# Altium footprint library TH resistors.PcbLib: 4 footprints
Each footprint in its own frame and in the unit in brackets; x right, y up, seen from the top. Pads: shape width x height; smd on the part's side, far side on the other; paste and mask are expansions set on the pad; w line width, h text height; cw(c..) or ccw(c..) is an arc to the next point about the centre after c.
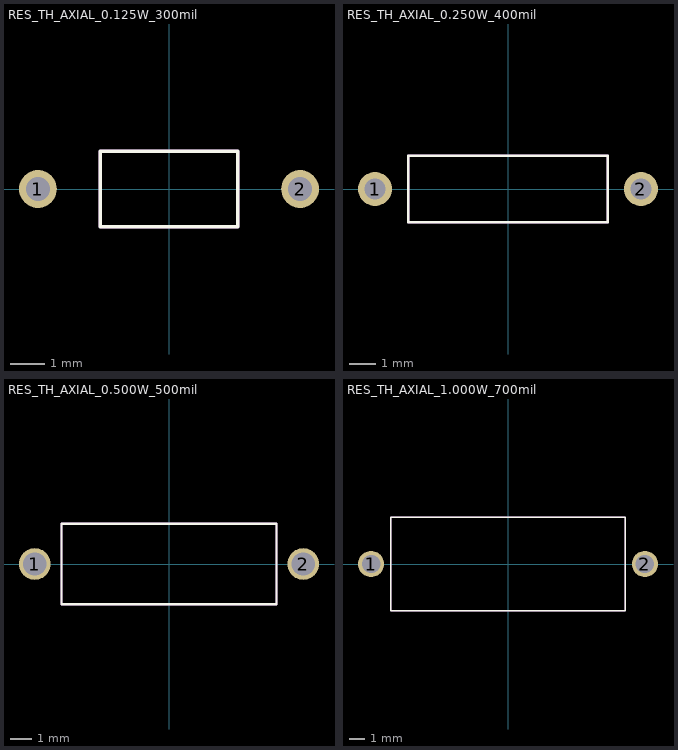
[diagram p0: the footprints below, top view; thin cyan lines are the x and y axes]

## RES_TH_AXIAL_0.125W_300mil [mm]
pads (2):
  round 1.1 hole 0.7: 1(-3.81,0) 2(3.81,0)
Top Overlay:
  lines w0.1: -2,-1.1 2,-1.1 2,1.1 -2,1.1 -2,-1.1
Mechanical 13:
  lines w0.1: -2,-1.1 2,-1.1 2,1.1 -2,1.1 -2,-1.1
3D body "Eighth_watt_resistor_300spacing.SLDPRT": height 2.14, standoff -6.4, extent -4.069,-1.048 4.07,1.048

## RES_TH_AXIAL_0.250W_400mil [mm]
pads (2):
  round 1.3 hole 0.8: 1(-5.08,0) 2(5.08,0)
Top Overlay:
  lines w0.1: -3.81,-1.27 3.81,-1.27 3.81,1.27 -3.81,1.27 -3.81,-1.27
Mechanical 13:
  lines w0.1: -3.81,-1.27 3.81,-1.27 3.81,1.27 -3.81,1.27 -3.81,-1.27
3D body "quarter_watt_resistor_400spacing.SLDPRT": height 2.7, standoff -6.1, extent -5.405,-1.3 5.406,1.29

## RES_TH_AXIAL_0.500W_500mil [mm]
pads (2):
  round 1.5 hole 1.1: 1(-6.35,0) 2(6.35,0)
Top Overlay:
  lines w0.1: -5.08,-1.905 5.08,-1.905 5.08,1.905 -5.08,1.905 -5.08,-1.905
Mechanical 13:
  lines w0.1: -5.08,-1.905 5.08,-1.905 5.08,1.905 -5.08,1.905 -5.08,-1.905
3D body "Half_watt_resistor_500spacing.SLDPRT": height 3.87, standoff -5.5, extent -6.724,-1.875 6.725,1.875

## RES_TH_AXIAL_1.000W_700mil [mm]
pads (2):
  round 1.7 hole 1.2: 1(-8.89,0) 2(8.89,0)
Top Overlay:
  lines w0.1: -7.62,-3.048 7.62,-3.048 7.62,3.048 -7.62,3.048 -7.62,-3.048
Mechanical 13:
  lines w0.1: -7.62,-3.048 7.62,-3.048 7.62,3.048 -7.62,3.048 -7.62,-3.048
3D body "one watt_resistor_700spacing-1.SLDPRT": height 6.1, standoff -4.4, extent -9.29,-2.996 9.29,2.996